# Altium integrated library Altium_WRIS-KWKB (rev22a).IntLib: 19 symbols
Pins are listed as number, name and electrical type; pins without a type are passive.

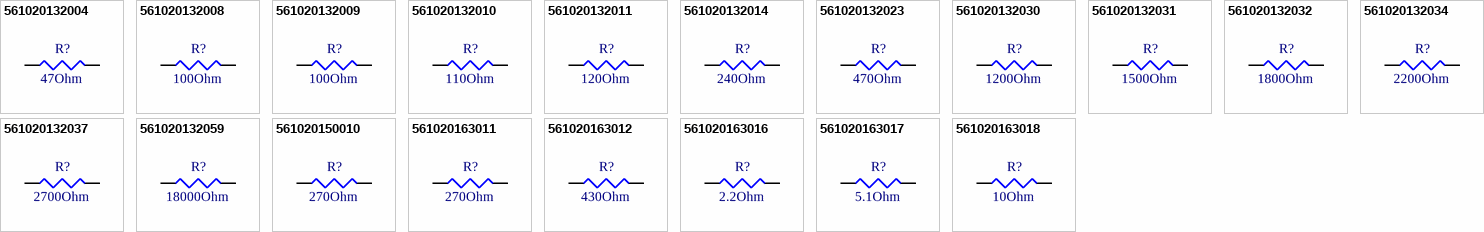
[diagram p0: symbols 561020132004 to 561020163018]

## 561020132004
designator R?, comment 47Ohm
WRIS-KWKB Thick Film Resistor, High Power Current Sensing, Wide Terminal, size 0612, 47Ohm, 0.75W; Manufacturer: Wurth Elektronik; Manufacturer Part Number: 561020132004; Rated Current: 126.3mA; Temperature Coefficient of Resistance: +/-200ppm/°C; Technical Reference: KB061247R0J304DAATP0000; Resistance Tolerance: 5%; ComponentLink1Description: Manufacturer Link; ComponentLink1URL: http://www.we-online.de; ComponentLink2Description: Datasheet; ComponentLink2URL: https://www.we-online.com/catalog/datasheet/561020132004.pdf; Operating Temperature min.: -55°C; Rated Power: 0.75W; Resistance: 47Ohm; Height: 0.55mm; Operating Temperature max.: 155°C; Mounting Technology: SMT; Packaging: Tape and Reel; Size: 0612; Length: 3.2mm; Width: 1.6mm
footprint WRIS-KWKB_0612_L3.2W1.6H0.55
pins: 1, 2

## 561020132008
designator R?, comment 100Ohm
WRIS-KWKB Thick Film Resistor, High Power Current Sensing, Wide Terminal, size 0612, 100Ohm, 0.75W; Manufacturer: Wurth Elektronik; Manufacturer Part Number: 561020132008; Rated Current: 86.6mA; Temperature Coefficient of Resistance: +/-200ppm/°C; Technical Reference: KB06121000F304DAATP0000; Resistance Tolerance: 1%; ComponentLink1Description: Manufacturer Link; ComponentLink1URL: http://www.we-online.de; ComponentLink2Description: Datasheet; ComponentLink2URL: https://www.we-online.com/catalog/datasheet/561020132008.pdf; Operating Temperature min.: -55°C; Rated Power: 0.75W; Resistance: 100Ohm; Height: 0.55mm; Operating Temperature max.: 155°C; Mounting Technology: SMT; Packaging: Tape and Reel; Size: 0612; Length: 3.2mm; Width: 1.6mm
footprint WRIS-KWKB_0612_L3.2W1.6H0.55
pins: 1, 2

## 561020132009
designator R?, comment 100Ohm
WRIS-KWKB Thick Film Resistor, High Power Current Sensing, Wide Terminal, size 0612, 100Ohm, 0.75W; Manufacturer: Wurth Elektronik; Manufacturer Part Number: 561020132009; Rated Current: 86.6mA; Temperature Coefficient of Resistance: +/-200ppm/°C; Technical Reference: KB06121000J304DAATP0000; Resistance Tolerance: 5%; ComponentLink1Description: Manufacturer Link; ComponentLink1URL: http://www.we-online.de; ComponentLink2Description: Datasheet; ComponentLink2URL: https://www.we-online.com/catalog/datasheet/561020132009.pdf; Operating Temperature min.: -55°C; Rated Power: 0.75W; Resistance: 100Ohm; Height: 0.55mm; Operating Temperature max.: 155°C; Mounting Technology: SMT; Packaging: Tape and Reel; Size: 0612; Length: 3.2mm; Width: 1.6mm
footprint WRIS-KWKB_0612_L3.2W1.6H0.55
pins: 1, 2

## 561020132010
designator R?, comment 110Ohm
WRIS-KWKB Thick Film Resistor, High Power Current Sensing, Wide Terminal, size 0612, 110Ohm, 0.75W; Manufacturer: Wurth Elektronik; Manufacturer Part Number: 561020132010; Rated Current: 82.6mA; Temperature Coefficient of Resistance: +/-200ppm/°C; Technical Reference: KB06121100J304DAATP0000; Resistance Tolerance: 5%; ComponentLink1Description: Manufacturer Link; ComponentLink1URL: http://www.we-online.de; ComponentLink2Description: Datasheet; ComponentLink2URL: https://www.we-online.com/catalog/datasheet/561020132010.pdf; Operating Temperature min.: -55°C; Rated Power: 0.75W; Resistance: 110Ohm; Height: 0.55mm; Operating Temperature max.: 155°C; Mounting Technology: SMT; Packaging: Tape and Reel; Size: 0612; Length: 3.2mm; Width: 1.6mm
footprint WRIS-KWKB_0612_L3.2W1.6H0.55
pins: 1, 2

## 561020132011
designator R?, comment 120Ohm
WRIS-KWKB Thick Film Resistor, High Power Current Sensing, Wide Terminal, size 0612, 120Ohm, 0.75W; Manufacturer: Wurth Elektronik; Manufacturer Part Number: 561020132011; Rated Current: 79.1mA; Temperature Coefficient of Resistance: +/-200ppm/°C; Technical Reference: KB06121200F304DAATP0000; Resistance Tolerance: 1%; ComponentLink1Description: Manufacturer Link; ComponentLink1URL: http://www.we-online.de; ComponentLink2Description: Datasheet; ComponentLink2URL: https://www.we-online.com/catalog/datasheet/561020132011.pdf; Operating Temperature min.: -55°C; Rated Power: 0.75W; Resistance: 120Ohm; Height: 0.55mm; Operating Temperature max.: 155°C; Mounting Technology: SMT; Packaging: Tape and Reel; Size: 0612; Length: 3.2mm; Width: 1.6mm
footprint WRIS-KWKB_0612_L3.2W1.6H0.55
pins: 1, 2

## 561020132014
designator R?, comment 240Ohm
WRIS-KWKB Thick Film Resistor, High Power Current Sensing, Wide Terminal, size 0612, 240Ohm, 0.75W; Manufacturer: Wurth Elektronik; Manufacturer Part Number: 561020132014; Rated Current: 55.9mA; Temperature Coefficient of Resistance: +/-200ppm/°C; Technical Reference: KB06122400F304DAATP0000; Resistance Tolerance: 1%; ComponentLink1Description: Manufacturer Link; ComponentLink1URL: http://www.we-online.de; ComponentLink2Description: Datasheet; ComponentLink2URL: https://www.we-online.com/catalog/datasheet/561020132014.pdf; Operating Temperature min.: -55°C; Rated Power: 0.75W; Resistance: 240Ohm; Height: 0.55mm; Operating Temperature max.: 155°C; Mounting Technology: SMT; Packaging: Tape and Reel; Size: 0612; Length: 3.2mm; Width: 1.6mm
footprint WRIS-KWKB_0612_L3.2W1.6H0.55
pins: 1, 2

## 561020132023
designator R?, comment 470Ohm
WRIS-KWKB Thick Film Resistor, High Power Current Sensing, Wide Terminal, size 0612, 470Ohm, 0.75W; Manufacturer: Wurth Elektronik; Manufacturer Part Number: 561020132023; Rated Current: 39.9mA; Temperature Coefficient of Resistance: +/-200ppm/°C; Technical Reference: KB06124700J304DAATP0000; Resistance Tolerance: 5%; ComponentLink1Description: Manufacturer Link; ComponentLink1URL: http://www.we-online.de; ComponentLink2Description: Datasheet; ComponentLink2URL: https://www.we-online.com/catalog/datasheet/561020132023.pdf; Operating Temperature min.: -55°C; Rated Power: 0.75W; Resistance: 470Ohm; Height: 0.55mm; Operating Temperature max.: 155°C; Mounting Technology: SMT; Packaging: Tape and Reel; Size: 0612; Length: 3.2mm; Width: 1.6mm
footprint WRIS-KWKB_0612_L3.2W1.6H0.55
pins: 1, 2

## 561020132030
designator R?, comment 1200Ohm
WRIS-KWKB Thick Film Resistor, High Power Current Sensing, Wide Terminal, size 0612, 1200Ohm, 0.75W; Manufacturer: Wurth Elektronik; Manufacturer Part Number: 561020132030; Rated Current: 25mA; Temperature Coefficient of Resistance: +/-200ppm/°C; Technical Reference: KB06121201F304DAATP0000; Resistance Tolerance: 1%; ComponentLink1Description: Manufacturer Link; ComponentLink1URL: http://www.we-online.de; ComponentLink2Description: Datasheet; ComponentLink2URL: https://www.we-online.com/catalog/datasheet/561020132030.pdf; Operating Temperature min.: -55°C; Rated Power: 0.75W; Resistance: 1200Ohm; Height: 0.55mm; Operating Temperature max.: 155°C; Mounting Technology: SMT; Packaging: Tape and Reel; Size: 0612; Length: 3.2mm; Width: 1.6mm
footprint WRIS-KWKB_0612_L3.2W1.6H0.55
pins: 1, 2

## 561020132031
designator R?, comment 1500Ohm
WRIS-KWKB Thick Film Resistor, High Power Current Sensing, Wide Terminal, size 0612, 1500Ohm, 0.75W; Manufacturer: Wurth Elektronik; Manufacturer Part Number: 561020132031; Rated Current: 22.4mA; Temperature Coefficient of Resistance: +/-200ppm/°C; Technical Reference: KB06121501F304DAATP0000; Resistance Tolerance: 1%; ComponentLink1Description: Manufacturer Link; ComponentLink1URL: http://www.we-online.de; ComponentLink2Description: Datasheet; ComponentLink2URL: https://www.we-online.com/catalog/datasheet/561020132031.pdf; Operating Temperature min.: -55°C; Rated Power: 0.75W; Resistance: 1500Ohm; Height: 0.55mm; Operating Temperature max.: 155°C; Mounting Technology: SMT; Packaging: Tape and Reel; Size: 0612; Length: 3.2mm; Width: 1.6mm
footprint WRIS-KWKB_0612_L3.2W1.6H0.55
pins: 1, 2

## 561020132032
designator R?, comment 1800Ohm
WRIS-KWKB Thick Film Resistor, High Power Current Sensing, Wide Terminal, size 0612, 1800Ohm, 0.75W; Manufacturer: Wurth Elektronik; Manufacturer Part Number: 561020132032; Rated Current: 20.4mA; Temperature Coefficient of Resistance: +/-200ppm/°C; Technical Reference: KB06121801F304DAATP0000; Resistance Tolerance: 1%; ComponentLink1Description: Manufacturer Link; ComponentLink1URL: http://www.we-online.de; ComponentLink2Description: Datasheet; ComponentLink2URL: https://www.we-online.com/catalog/datasheet/561020132032.pdf; Operating Temperature min.: -55°C; Rated Power: 0.75W; Resistance: 1800Ohm; Height: 0.55mm; Operating Temperature max.: 155°C; Mounting Technology: SMT; Packaging: Tape and Reel; Size: 0612; Length: 3.2mm; Width: 1.6mm
footprint WRIS-KWKB_0612_L3.2W1.6H0.55
pins: 1, 2

## 561020132034
designator R?, comment 2200Ohm
WRIS-KWKB Thick Film Resistor, High Power Current Sensing, Wide Terminal, size 0612, 2200Ohm, 0.75W; Manufacturer: Wurth Elektronik; Manufacturer Part Number: 561020132034; Rated Current: 18.5mA; Temperature Coefficient of Resistance: +/-200ppm/°C; Technical Reference: KB06122201F304DAATP0000; Resistance Tolerance: 1%; ComponentLink1Description: Manufacturer Link; ComponentLink1URL: http://www.we-online.de; ComponentLink2Description: Datasheet; ComponentLink2URL: https://www.we-online.com/catalog/datasheet/561020132034.pdf; Operating Temperature min.: -55°C; Rated Power: 0.75W; Resistance: 2200Ohm; Height: 0.55mm; Operating Temperature max.: 155°C; Mounting Technology: SMT; Packaging: Tape and Reel; Size: 0612; Length: 3.2mm; Width: 1.6mm
footprint WRIS-KWKB_0612_L3.2W1.6H0.55
pins: 1, 2

## 561020132037
designator R?, comment 2700Ohm
WRIS-KWKB Thick Film Resistor, High Power Current Sensing, Wide Terminal, size 0612, 2700Ohm, 0.75W; Manufacturer: Wurth Elektronik; Manufacturer Part Number: 561020132037; Rated Current: 16.7mA; Temperature Coefficient of Resistance: +/-200ppm/°C; Technical Reference: KB06122701F304DAATP0000; Resistance Tolerance: 1%; ComponentLink1Description: Manufacturer Link; ComponentLink1URL: http://www.we-online.de; ComponentLink2Description: Datasheet; ComponentLink2URL: https://www.we-online.com/catalog/datasheet/561020132037.pdf; Operating Temperature min.: -55°C; Rated Power: 0.75W; Resistance: 2700Ohm; Height: 0.55mm; Operating Temperature max.: 155°C; Mounting Technology: SMT; Packaging: Tape and Reel; Size: 0612; Length: 3.2mm; Width: 1.6mm
footprint WRIS-KWKB_0612_L3.2W1.6H0.55
pins: 1, 2

## 561020132059
designator R?, comment 18000Ohm
WRIS-KWKB Thick Film Resistor, High Power Current Sensing, Wide Terminal, size 0612, 18000Ohm, 0.75W; Manufacturer: Wurth Elektronik; Manufacturer Part Number: 561020132059; Rated Current: 6.5mA; Temperature Coefficient of Resistance: +/-200ppm/°C; Technical Reference: KB06121802F304DAATP0000; Resistance Tolerance: 1%; ComponentLink1Description: Manufacturer Link; ComponentLink1URL: http://www.we-online.de; ComponentLink2Description: Datasheet; ComponentLink2URL: https://www.we-online.com/catalog/datasheet/561020132059.pdf; Operating Temperature min.: -55°C; Rated Power: 0.75W; Resistance: 18000Ohm; Height: 0.55mm; Operating Temperature max.: 155°C; Mounting Technology: SMT; Packaging: Tape and Reel; Size: 0612; Length: 3.2mm; Width: 1.6mm
footprint WRIS-KWKB_0612_L3.2W1.6H0.55
pins: 1, 2

## 561020150010
designator R?, comment 270Ohm
WRIS-KWKB Thick Film Resistor, High Power Current Sensing, Wide Terminal, size 1020, 270Ohm, 1W; Manufacturer: Wurth Elektronik; Manufacturer Part Number: 561020150010; Rated Current: 60.9mA; Temperature Coefficient of Resistance: +/-200ppm/°C; Technical Reference: KB10202700F101DAATE0000; Resistance Tolerance: 1%; ComponentLink1Description: Manufacturer Link; ComponentLink1URL: http://www.we-online.de; ComponentLink2Description: Datasheet; ComponentLink2URL: https://www.we-online.com/catalog/datasheet/561020150010.pdf; Operating Temperature min.: -55°C; Rated Power: 1W; Resistance: 270Ohm; Height: 0.55mm; Operating Temperature max.: 155°C; Mounting Technology: SMT; Packaging: Tape and Reel; Size: 1020; Length: 5mm; Width: 2.5mm
footprint WRIS-KWKB_1020_L5W2.5H0.55
pins: 1, 2

## 561020163011
designator R?, comment 270Ohm
WRIS-KWKB Thick Film Resistor, High Power Current Sensing, Wide Terminal, size 1225, 270Ohm, 2W; Manufacturer: Wurth Elektronik; Manufacturer Part Number: 561020163011; Rated Current: 86.1mA; Temperature Coefficient of Resistance: +/-200ppm/°C; Technical Reference: KB12252700F201DAATE0000; Resistance Tolerance: 1%; ComponentLink1Description: Manufacturer Link; ComponentLink1URL: http://www.we-online.de; ComponentLink2Description: Datasheet; ComponentLink2URL: https://www.we-online.com/catalog/datasheet/561020163011.pdf; Operating Temperature min.: -55°C; Rated Power: 2W; Resistance: 270Ohm; Height: 0.55mm; Operating Temperature max.: 155°C; Mounting Technology: SMT; Packaging: Tape and Reel; Size: 1225; Length: 6.3mm; Width: 3.2mm
footprint WRIS-KWKB_1225_L6.3W3.2H0.55
pins: 1, 2

## 561020163012
designator R?, comment 430Ohm
WRIS-KWKB Thick Film Resistor, High Power Current Sensing, Wide Terminal, size 1225, 430Ohm, 2W; Manufacturer: Wurth Elektronik; Manufacturer Part Number: 561020163012; Rated Current: 68.2mA; Temperature Coefficient of Resistance: +/-200ppm/°C; Technical Reference: KB12254300J201DAATE0000; Resistance Tolerance: 5%; ComponentLink1Description: Manufacturer Link; ComponentLink1URL: http://www.we-online.de; ComponentLink2Description: Datasheet; ComponentLink2URL: https://www.we-online.com/catalog/datasheet/561020163012.pdf; Operating Temperature min.: -55°C; Rated Power: 2W; Resistance: 430Ohm; Height: 0.55mm; Operating Temperature max.: 155°C; Mounting Technology: SMT; Packaging: Tape and Reel; Size: 1225; Length: 6.3mm; Width: 3.2mm
footprint WRIS-KWKB_1225_L6.3W3.2H0.55
pins: 1, 2

## 561020163016
designator R?, comment 2.2Ohm
WRIS-KWKB Thick Film Resistor, High Power Current Sensing, Wide Terminal, size 1225, 2.2Ohm, 2W; Manufacturer: Wurth Elektronik; Manufacturer Part Number: 561020163016; Rated Current: 953.5mA; Temperature Coefficient of Resistance: +/-200ppm/°C; Technical Reference: KB12252R20F201DAATE0000; Resistance Tolerance: 1%; ComponentLink1Description: Manufacturer Link; ComponentLink1URL: http://www.we-online.de; ComponentLink2Description: Datasheet; ComponentLink2URL: https://www.we-online.com/catalog/datasheet/561020163016.pdf; Operating Temperature min.: -55°C; Rated Power: 2W; Resistance: 2.2Ohm; Height: 0.55mm; Operating Temperature max.: 155°C; Mounting Technology: SMT; Packaging: Tape and Reel; Size: 1225; Length: 6.3mm; Width: 3.2mm
footprint WRIS-KWKB_1225_L6.3W3.2H0.55
pins: 1, 2

## 561020163017
designator R?, comment 5.1Ohm
WRIS-KWKB Thick Film Resistor, High Power Current Sensing, Wide Terminal, size 1225, 5.1Ohm, 2W; Manufacturer: Wurth Elektronik; Manufacturer Part Number: 561020163017; Rated Current: 626.2mA; Temperature Coefficient of Resistance: +/-200ppm/°C; Technical Reference: KB12255R10F201DAATE0000; Resistance Tolerance: 1%; ComponentLink1Description: Manufacturer Link; ComponentLink1URL: http://www.we-online.de; ComponentLink2Description: Datasheet; ComponentLink2URL: https://www.we-online.com/catalog/datasheet/561020163017.pdf; Operating Temperature min.: -55°C; Rated Power: 2W; Resistance: 5.1Ohm; Height: 0.55mm; Operating Temperature max.: 155°C; Mounting Technology: SMT; Packaging: Tape and Reel; Size: 1225; Length: 6.3mm; Width: 3.2mm
footprint WRIS-KWKB_1225_L6.3W3.2H0.55
pins: 1, 2

## 561020163018
designator R?, comment 10Ohm
WRIS-KWKB Thick Film Resistor, High Power Current Sensing, Wide Terminal, size 1225, 10Ohm, 2W; Manufacturer: Wurth Elektronik; Manufacturer Part Number: 561020163018; Rated Current: 447.2mA; Temperature Coefficient of Resistance: +/-200ppm/°C; Technical Reference: KB122510R0F201DAATE0000; Resistance Tolerance: 1%; ComponentLink1Description: Manufacturer Link; ComponentLink1URL: http://www.we-online.de; ComponentLink2Description: Datasheet; ComponentLink2URL: https://www.we-online.com/catalog/datasheet/561020163018.pdf; Operating Temperature min.: -55°C; Rated Power: 2W; Resistance: 10Ohm; Height: 0.55mm; Operating Temperature max.: 155°C; Mounting Technology: SMT; Packaging: Tape and Reel; Size: 1225; Length: 6.3mm; Width: 3.2mm
footprint WRIS-KWKB_1225_L6.3W3.2H0.55
pins: 1, 2